# Altium schematic symbol library kmilo17pet-TI_BattMgmt.SchLib: 950 symbols (part 27 of 60)
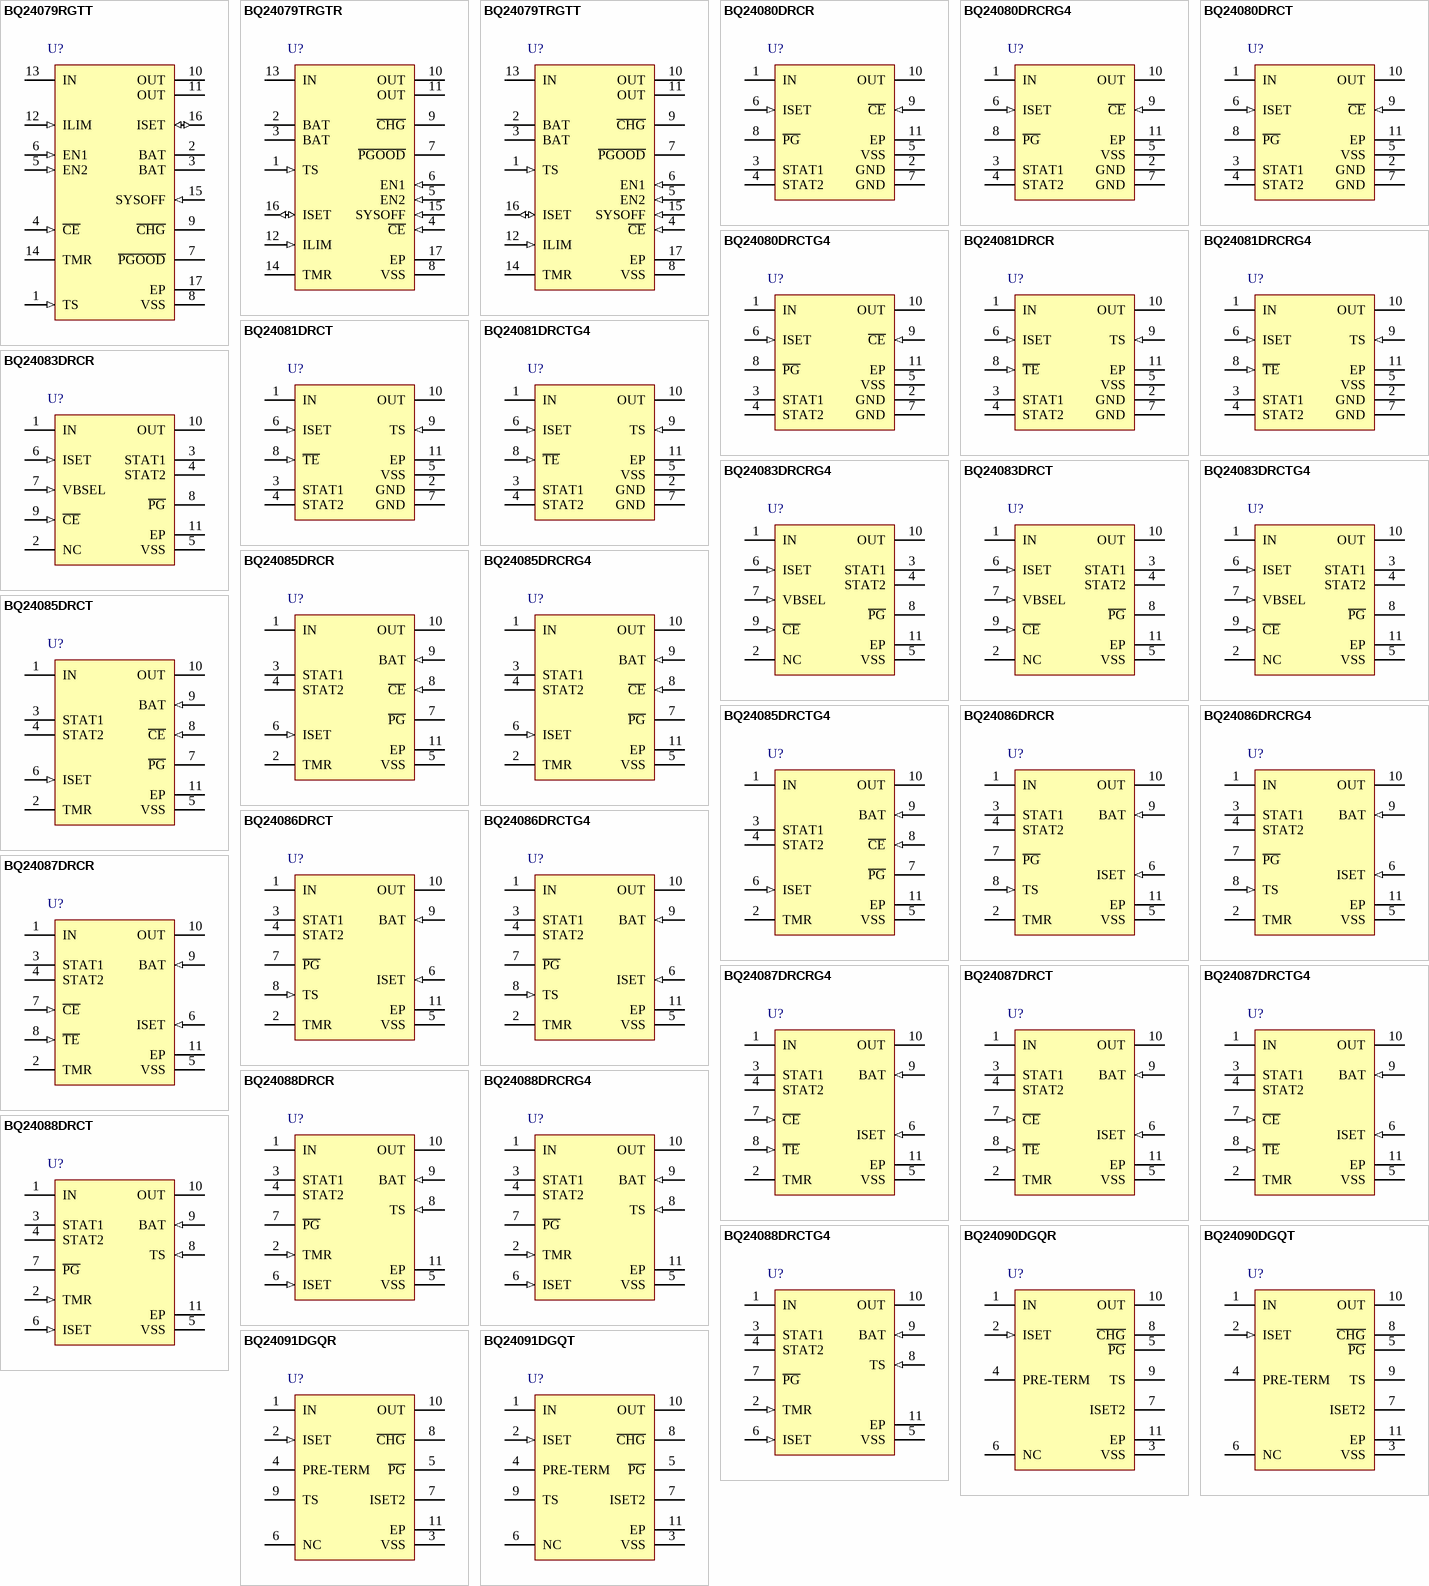
[diagram p60: symbols BQ24079RGTT to BQ24091DGQT]

## BQ24079TRGTT
designator U?
1.5 A USB-Friendly Li-Ion Battery Charger and Power-Path Management IC, 4.3 V, -40 to 85 degC, 16-pin QFN (RGT), Green (RoHS & no Sb/Br); PartNumber: BQ24079TRGTT; Manufacturer: Texas Instruments; Lead Acid: N; SubFamily: Battery Charge Management; Vin(Min)(V): 4.3; DatasheetVersion: SLUS937A; PackageVersion: revH, Oct-2011; PackageReference: RGT16-1700X1700TP; PackageDescription: 16-Pin Plastic Quad Flat No-Lead, 3 x 3 mm Body, 0.5 mm Pitch, 1.7 x 1.7 mm Exposed Pad; Supplier 1: Digi-Key; Supplier Part Number 1: BQ24079TRGTT-ND; Supplier Part Number 3: 595-BQ24079TRGTT; Eco-Plan: Green (RoHS & no Sb/Br); Li-Ion: N; Li-Polymer: N; NiCd: N; NiMH: N; Over Voltage Protection: N; Mounting Technology: Surface Mount; Code_JEDEC: MO-220; ComponentLink1Description: Datasheet; ComponentLink1URL: http://www.ti.com/general/docs/lit/getliterature.tsp?genericPartNumber=BQ24079T&fileType=pdf
footprint RGT16-1700X1700TP (QFN, 16-Leads, Body 3x3mm, Pitch 0.5mm, Thermal Pad 1.7x1.7mm, TI Recommended)
pins: 1 TS (in) "External NTC Thermistor Input. Connect the TS input to the center tap of a resistor divider rom VIN to GND with the NTC in parallel with the bottom resistor to monitor the NTC in the battery pack. For applications that do (See Datasheet)", 2 BAT (power) "Charger Power Stage Output and Battery Voltage Sense Input. Connect BAT to the positive terminal of the battery. Bypass BAT to VSS with a 4.7uF to 47uF ceramic capacitor.", 3 BAT (power) "Charger Power Stage Output and Battery Voltage Sense Input. Connect BAT to the positive terminal of the battery. Bypass BAT to VSS with a 4.7uF to 47uF ceramic capacitor.", 4 ~{CE} (in) "Charge Enable Active-Low Input. Connect C\E\ to a high logic level to place the battery charger in standby mode. In standby mode, OUT is active and battery supplement mode is available. Connect /CE to a low logic level to (See Datasheet)", 5 EN2 (in) "Input Current Limit Configuration Inputs. Use EN1 and En2 to control the maximum input current and enable USB compliance. See Table 1 for the description of the operation states. EN1 and EN2 are internally pulled down with (See Datasheet)", 6 EN1 (in) "Input Current Limit Configuration Inputs. Use EN1 and En2 to control the maximum input current and enable USB compliance. See Table 1 for the description of the operation states. EN1 and EN2 are internally pulled down with (See Datasheet)", 7 ~{PGOOD} (hiz) "Open-Drain Power Good Status Indication Output. P\G\O\O\D\ pulls to VSS when a valid input source is detected. P\G\O\O\D\ is high-impedance when the input power is not within specified limits. Connect P\G\O\O\D\ to the (See Datasheet)", 8 VSS (power) "Ground. Connect to the thermal pad and to the ground rail of the circuit.", 9 ~{CHG} (hiz) "Open-Drain Charging Status Indication Output. C\H\G\ pulls to VSS when the battery is charging. C\H\G\ is high-impedance when charging is complete or when the charger is disabled. C\H\G\ flashes to indicate a timer fault. (See Datasheet)", 10 OUT (power) "System Supply Output. OUT provides a regulated output when the input is below the OVP threshold and above the regulation voltage. When the input is out of the operation range, OUT is connected to VBAT except when SYSOFF is (See Datasheet)", 11 OUT (power) "System Supply Output. OUT provides a regulated output when the input is below the OVP threshold and above the regulation voltage. When the input is out of the operation range, OUT is connected to VBAT except when SYSOFF is (See Datasheet)", 12 ILIM (in) "Adjustable Current Limit Programming Input. Connect a 1.07k ohm to 7.5k ohm resistor from ILIM to VSS to program the maximum input current (EN2=1, EN1=0). The input current includes the system load and the battery charge (See Datasheet)", 13 IN (power) "Input Power Connection. Connect IN to the external DC supply (AC adapter or USB port).The input operating range is 4.35V to 6.6V. The input accepts voltages up to 26V without damage, but operation is suspended. Bypass IN to (See Datasheet)", 14 TMR "Timer Programming Input. TMR controls the pre-charge and fast-charge safety timers.Connect TMR to VSS to disable all safety timers. Connect a 18k ohm to 72k ohm resistor between TMR and VSS to program the timers to a desired (See Datasheet)", 15 SYSOFF (in) "System Enable Input. Connect SYSOFF high to turn off the FET connecting the battery to the system output. When an adapter is connected, charge is also disabled. Connect SYSOFF low for normal operation. SYSOFF is internally (See Datasheet)", 16 ISET (io) "Fast Charge Current Programming Input. Connect a 590 ohm to 3 k ohm resistor from ISET to VSS to program the fast charge current level. Charging is disabled if ISET is left unconnected. While charging, the voltage ISET (See Datasheet)", 17 EP (power) "There is an internal electrical connection between the exposed thermal pad and the VSS pin of the device. The thermal pad must be connected to the same potential as the VSS pin on the printed circuit board. Do not use the (See Datasheet)"

## BQ24080DRCR
designator U?
1-Cell Li-Ion Charger with 1 A FET, AC Present and Charge Enable, 4.5 V, -40 to 85 degC, 10-pin SON (DRC), Green (RoHS & no Sb/Br); PartNumber: BQ24080DRCR; Manufacturer: Texas Instruments; Lead Acid: N; Li-Ion: Y; SubFamily: Battery Charge Management; Vin(Min)(V): 4.5; DatasheetVersion: SLUS698E; PackageVersion: revL, Sep-2011; PackageReference: DRC10-2400X1650TP; PackageDescription: 10-Pin Plastic Small Outline No-Lead, 3 x 3 x 1 mm Body, 0.5 mm Pitch, Exposed Pad; Supplier 1: Digi-Key; Supplier Part Number 1: 296-19653-2-ND; Supplier Part Number 3: 296-19653-6-ND; Eco-Plan: Green (RoHS & no Sb/Br); Li-Polymer: Y; NiCd: N; NiMH: N; Over Voltage Protection: N; Mounting Technology: Surface Mount; ComponentLink1Description: Datasheet; ComponentLink1URL: http://www.ti.com/general/docs/lit/getliterature.tsp?genericPartNumber=BQ24080&fileType=pdf
footprint DRC10-2400X1650TP (SON, 10-Leads, Body 3x3mm, Pitch 0.5mm, Thermal Pad 2.4x1.65mm, TI Recommended)
pins: 1 IN (power) "Adapter dc voltage. Connect minimum 0.1-uF capacitor to VSS.", 2 GND (power) "Ground", 3 STAT1 (oc) "Charge status outputs (open-drain)", 4 STAT2 (oc) "Charge status outputs (open-drain)", 5 VSS (power) "Ground", 6 ISET (in) "Charge current. External resistor to VSS sets precharge and fast-charge current, and also the termination current value. Can be used to monitor the charge current.", 7 GND (power) "Ground", 8 ~{PG} (hiz) "Power-good status output (open-drain)", 9 ~{CE} (in) "Charge enable input (active-low)", 10 OUT (power) "Charge current output. Connect minimum 0.1-uF capacitor to VSS.", 11 EP (power) "There is an internal electrical connection between the exposed thermal pad and the VSS pin of the device. The exposed thermal pad must be connected to the same potential as the VSS pin on the printed-circuit board. Do not (See Datasheet)"

## BQ24080DRCRG4
designator U?
1-Cell Li-Ion Charger with 1 A FET, AC Present and Charge Enable, 4.5 V, -40 to 85 degC, 10-pin SON (DRC), Green (RoHS & no Sb/Br); PartNumber: BQ24080DRCRG4; Manufacturer: Texas Instruments; Lead Acid: N; Li-Ion: Y; SubFamily: Battery Charge Management; Vin(Min)(V): 4.5; DatasheetVersion: SLUS698E; PackageVersion: revL, Sep-2011; PackageReference: DRC10-2400X1650TP; PackageDescription: 10-Pin Plastic Small Outline No-Lead, 3 x 3 x 1 mm Body, 0.5 mm Pitch, Exposed Pad; Supplier 1: Digi-Key; Supplier Part Number 1: BQ24080DRCRG4-ND; Supplier Part Number 3: 595-BQ24080DRCRG4; Eco-Plan: Green (RoHS & no Sb/Br); Li-Polymer: Y; NiCd: N; NiMH: N; Over Voltage Protection: N; Mounting Technology: Surface Mount; ComponentLink1Description: Datasheet; ComponentLink1URL: http://www.ti.com/general/docs/lit/getliterature.tsp?genericPartNumber=BQ24080&fileType=pdf
footprint DRC10-2400X1650TP (SON, 10-Leads, Body 3x3mm, Pitch 0.5mm, Thermal Pad 2.4x1.65mm, TI Recommended)
pins: 1 IN (power) "Adapter dc voltage. Connect minimum 0.1-uF capacitor to VSS.", 2 GND (power) "Ground", 3 STAT1 (oc) "Charge status outputs (open-drain)", 4 STAT2 (oc) "Charge status outputs (open-drain)", 5 VSS (power) "Ground", 6 ISET (in) "Charge current. External resistor to VSS sets precharge and fast-charge current, and also the termination current value. Can be used to monitor the charge current.", 7 GND (power) "Ground", 8 ~{PG} (hiz) "Power-good status output (open-drain)", 9 ~{CE} (in) "Charge enable input (active-low)", 10 OUT (power) "Charge current output. Connect minimum 0.1-uF capacitor to VSS.", 11 EP (power) "There is an internal electrical connection between the exposed thermal pad and the VSS pin of the device. The exposed thermal pad must be connected to the same potential as the VSS pin on the printed-circuit board. Do not (See Datasheet)"

## BQ24080DRCT
designator U?
1-Cell Li-Ion Charger with 1 A FET, AC Present and Charge Enable, 4.5 V, -40 to 85 degC, 10-pin SON (DRC), Green (RoHS & no Sb/Br); PartNumber: BQ24080DRCT; Manufacturer: Texas Instruments; Lead Acid: N; Li-Ion: Y; SubFamily: Battery Charge Management; Vin(Min)(V): 4.5; DatasheetVersion: SLUS698E; PackageVersion: revL, Sep-2011; PackageReference: DRC10-2400X1650TP; PackageDescription: 10-Pin Plastic Small Outline No-Lead, 3 x 3 x 1 mm Body, 0.5 mm Pitch, Exposed Pad; Supplier 1: Digi-Key; Supplier Part Number 1: 296-25923-2-ND; Supplier Part Number 3: 296-25923-6-ND; Eco-Plan: Green (RoHS & no Sb/Br); Li-Polymer: Y; NiCd: N; NiMH: N; Over Voltage Protection: N; Mounting Technology: Surface Mount; ComponentLink1Description: Datasheet; ComponentLink1URL: http://www.ti.com/general/docs/lit/getliterature.tsp?genericPartNumber=BQ24080&fileType=pdf
footprint DRC10-2400X1650TP (SON, 10-Leads, Body 3x3mm, Pitch 0.5mm, Thermal Pad 2.4x1.65mm, TI Recommended)
pins: 1 IN (power) "Adapter dc voltage. Connect minimum 0.1-uF capacitor to VSS.", 2 GND (power) "Ground", 3 STAT1 (oc) "Charge status outputs (open-drain)", 4 STAT2 (oc) "Charge status outputs (open-drain)", 5 VSS (power) "Ground", 6 ISET (in) "Charge current. External resistor to VSS sets precharge and fast-charge current, and also the termination current value. Can be used to monitor the charge current.", 7 GND (power) "Ground", 8 ~{PG} (hiz) "Power-good status output (open-drain)", 9 ~{CE} (in) "Charge enable input (active-low)", 10 OUT (power) "Charge current output. Connect minimum 0.1-uF capacitor to VSS.", 11 EP (power) "There is an internal electrical connection between the exposed thermal pad and the VSS pin of the device. The exposed thermal pad must be connected to the same potential as the VSS pin on the printed-circuit board. Do not (See Datasheet)"

## BQ24080DRCTG4
designator U?
1-Cell Li-Ion Charger with 1 A FET, AC Present and Charge Enable, 4.5 V, -40 to 85 degC, 10-pin SON (DRC), Green (RoHS & no Sb/Br); PartNumber: BQ24080DRCTG4; Manufacturer: Texas Instruments; Lead Acid: N; Li-Ion: Y; SubFamily: Battery Charge Management; Vin(Min)(V): 4.5; DatasheetVersion: SLUS698E; PackageVersion: revL, Sep-2011; PackageReference: DRC10-2400X1650TP; PackageDescription: 10-Pin Plastic Small Outline No-Lead, 3 x 3 x 1 mm Body, 0.5 mm Pitch, Exposed Pad; Supplier 1: Digi-Key; Supplier Part Number 1: BQ24080DRCTG4-ND; Supplier Part Number 3: 595-BQ24080DRCTG4; Eco-Plan: Green (RoHS & no Sb/Br); Li-Polymer: Y; NiCd: N; NiMH: N; Over Voltage Protection: N; Mounting Technology: Surface Mount; ComponentLink1Description: Datasheet; ComponentLink1URL: http://www.ti.com/general/docs/lit/getliterature.tsp?genericPartNumber=BQ24080&fileType=pdf
footprint DRC10-2400X1650TP (SON, 10-Leads, Body 3x3mm, Pitch 0.5mm, Thermal Pad 2.4x1.65mm, TI Recommended)
pins: 1 IN (power) "Adapter dc voltage. Connect minimum 0.1-uF capacitor to VSS.", 2 GND (power) "Ground", 3 STAT1 (oc) "Charge status outputs (open-drain)", 4 STAT2 (oc) "Charge status outputs (open-drain)", 5 VSS (power) "Ground", 6 ISET (in) "Charge current. External resistor to VSS sets precharge and fast-charge current, and also the termination current value. Can be used to monitor the charge current.", 7 GND (power) "Ground", 8 ~{PG} (hiz) "Power-good status output (open-drain)", 9 ~{CE} (in) "Charge enable input (active-low)", 10 OUT (power) "Charge current output. Connect minimum 0.1-uF capacitor to VSS.", 11 EP (power) "There is an internal electrical connection between the exposed thermal pad and the VSS pin of the device. The exposed thermal pad must be connected to the same potential as the VSS pin on the printed-circuit board. Do not (See Datasheet)"

## BQ24081DRCR
designator U?
1-Cell Li-Ion Charger with 1 A FET, Timer Enable and Temperature Sensing, 4.5 V, -40 to 85 degC, 10-pin SON (DRC), Green (RoHS & no Sb/Br); PartNumber: BQ24081DRCR; Manufacturer: Texas Instruments; Lead Acid: N; Li-Ion: Y; SubFamily: Battery Charge Management; Vin(Min)(V): 4.5; DatasheetVersion: SLUS698E; PackageVersion: revL, Sep-2011; PackageReference: DRC10-2400X1650TP; PackageDescription: 10-Pin Plastic Small Outline No-Lead, 3 x 3 x 1 mm Body, 0.5 mm Pitch, Exposed Pad; Supplier 1: Digi-Key; Supplier Part Number 1: 296-21217-2-ND; Supplier Part Number 3: 296-21217-6-ND; Eco-Plan: Green (RoHS & no Sb/Br); Li-Polymer: Y; NiCd: N; NiMH: N; Over Voltage Protection: N; Mounting Technology: Surface Mount; ComponentLink1Description: Datasheet; ComponentLink1URL: http://www.ti.com/general/docs/lit/getliterature.tsp?genericPartNumber=BQ24081&fileType=pdf
footprint DRC10-2400X1650TP (SON, 10-Leads, Body 3x3mm, Pitch 0.5mm, Thermal Pad 2.4x1.65mm, TI Recommended)
pins: 1 IN (power) "Adapter dc voltage. Connect minimum 0.1 uF capacitor to VSS.", 2 GND (power) "Ground", 3 STAT1 (oc) "Charge status outputs (open-drain)", 4 STAT2 (oc) "Charge status outputs (open-drain)", 5 VSS (power) "Ground", 6 ISET (in) "Charge current. External resistor to VSS sets precharge and fast-charge current, and also the termination current value. Can be used to monitor the charge current.", 7 GND (power) "Ground", 8 ~{TE} (in) "Timer-enable input (active-low)", 9 TS (in) "Temperature sense; connect to NTC in battery pack.", 10 OUT (power) "Charge current output. Connect minimum 0.1 uF capacitor to VSS.", 11 EP (power) "There is an internal electrical connection between the exposed thermal pad and the VSS pin of the device. The exposed thermal pad must be connected to the same potential as the VSS pin on the printed-circuit board. Do not (See Datasheet)"

## BQ24081DRCRG4
designator U?
1-Cell Li-Ion Charger with 1 A FET, Timer Enable and Temperature Sensing, 4.5 V, -40 to 85 degC, 10-pin SON (DRC), Green (RoHS & no Sb/Br); PartNumber: BQ24081DRCRG4; Manufacturer: Texas Instruments; Lead Acid: N; Li-Ion: Y; SubFamily: Battery Charge Management; Vin(Min)(V): 4.5; DatasheetVersion: SLUS698E; PackageVersion: revL, Sep-2011; PackageReference: DRC10-2400X1650TP; PackageDescription: 10-Pin Plastic Small Outline No-Lead, 3 x 3 x 1 mm Body, 0.5 mm Pitch, Exposed Pad; Supplier 1: Digi-Key; Supplier Part Number 1: BQ24081DRCRG4-ND; Supplier Part Number 3: 595-BQ24081DRCRG4; Eco-Plan: Green (RoHS & no Sb/Br); Li-Polymer: Y; NiCd: N; NiMH: N; Over Voltage Protection: N; Mounting Technology: Surface Mount; ComponentLink1Description: Datasheet; ComponentLink1URL: http://www.ti.com/general/docs/lit/getliterature.tsp?genericPartNumber=BQ24081&fileType=pdf
footprint DRC10-2400X1650TP (SON, 10-Leads, Body 3x3mm, Pitch 0.5mm, Thermal Pad 2.4x1.65mm, TI Recommended)
pins: 1 IN (power) "Adapter dc voltage. Connect minimum 0.1 uF capacitor to VSS.", 2 GND (power) "Ground", 3 STAT1 (oc) "Charge status outputs (open-drain)", 4 STAT2 (oc) "Charge status outputs (open-drain)", 5 VSS (power) "Ground", 6 ISET (in) "Charge current. External resistor to VSS sets precharge and fast-charge current, and also the termination current value. Can be used to monitor the charge current.", 7 GND (power) "Ground", 8 ~{TE} (in) "Timer-enable input (active-low)", 9 TS (in) "Temperature sense; connect to NTC in battery pack.", 10 OUT (power) "Charge current output. Connect minimum 0.1 uF capacitor to VSS.", 11 EP (power) "There is an internal electrical connection between the exposed thermal pad and the VSS pin of the device. The exposed thermal pad must be connected to the same potential as the VSS pin on the printed-circuit board. Do not (See Datasheet)"

## BQ24081DRCT
designator U?
1-Cell Li-Ion Charger with 1 A FET, Timer Enable and Temperature Sensing, 4.5 V, -40 to 85 degC, 10-pin SON (DRC), Green (RoHS & no Sb/Br); PartNumber: BQ24081DRCT; Manufacturer: Texas Instruments; Lead Acid: N; Li-Ion: Y; SubFamily: Battery Charge Management; Vin(Min)(V): 4.5; DatasheetVersion: SLUS698E; PackageVersion: revL, Sep-2011; PackageReference: DRC10-2400X1650TP; PackageDescription: 10-Pin Plastic Small Outline No-Lead, 3 x 3 x 1 mm Body, 0.5 mm Pitch, Exposed Pad; Supplier 1: Digi-Key; Supplier Part Number 1: 296-32026-2-ND; Supplier Part Number 3: 296-32026-6-ND; Eco-Plan: Green (RoHS & no Sb/Br); Li-Polymer: Y; NiCd: N; NiMH: N; Over Voltage Protection: N; Mounting Technology: Surface Mount; ComponentLink1Description: Datasheet; ComponentLink1URL: http://www.ti.com/general/docs/lit/getliterature.tsp?genericPartNumber=BQ24081&fileType=pdf
footprint DRC10-2400X1650TP (SON, 10-Leads, Body 3x3mm, Pitch 0.5mm, Thermal Pad 2.4x1.65mm, TI Recommended)
pins: 1 IN (power) "Adapter dc voltage. Connect minimum 0.1 uF capacitor to VSS.", 2 GND (power) "Ground", 3 STAT1 (oc) "Charge status outputs (open-drain)", 4 STAT2 (oc) "Charge status outputs (open-drain)", 5 VSS (power) "Ground", 6 ISET (in) "Charge current. External resistor to VSS sets precharge and fast-charge current, and also the termination current value. Can be used to monitor the charge current.", 7 GND (power) "Ground", 8 ~{TE} (in) "Timer-enable input (active-low)", 9 TS (in) "Temperature sense; connect to NTC in battery pack.", 10 OUT (power) "Charge current output. Connect minimum 0.1 uF capacitor to VSS.", 11 EP (power) "There is an internal electrical connection between the exposed thermal pad and the VSS pin of the device. The exposed thermal pad must be connected to the same potential as the VSS pin on the printed-circuit board. Do not (See Datasheet)"

## BQ24081DRCTG4
designator U?
1-Cell Li-Ion Charger with 1 A FET, Timer Enable and Temperature Sensing, 4.5 V, -40 to 85 degC, 10-pin SON (DRC), Green (RoHS & no Sb/Br); PartNumber: BQ24081DRCTG4; Manufacturer: Texas Instruments; Lead Acid: N; Li-Ion: Y; SubFamily: Battery Charge Management; Vin(Min)(V): 4.5; DatasheetVersion: SLUS698E; PackageVersion: revL, Sep-2011; PackageReference: DRC10-2400X1650TP; PackageDescription: 10-Pin Plastic Small Outline No-Lead, 3 x 3 x 1 mm Body, 0.5 mm Pitch, Exposed Pad; Supplier 1: Digi-Key; Supplier Part Number 1: BQ24081DRCTG4-ND; Supplier Part Number 3: 595-BQ24081DRCTG4; Eco-Plan: Green (RoHS & no Sb/Br); Li-Polymer: Y; NiCd: N; NiMH: N; Over Voltage Protection: N; Mounting Technology: Surface Mount; ComponentLink1Description: Datasheet; ComponentLink1URL: http://www.ti.com/general/docs/lit/getliterature.tsp?genericPartNumber=BQ24081&fileType=pdf
footprint DRC10-2400X1650TP (SON, 10-Leads, Body 3x3mm, Pitch 0.5mm, Thermal Pad 2.4x1.65mm, TI Recommended)
pins: 1 IN (power) "Adapter dc voltage. Connect minimum 0.1 uF capacitor to VSS.", 2 GND (power) "Ground", 3 STAT1 (oc) "Charge status outputs (open-drain)", 4 STAT2 (oc) "Charge status outputs (open-drain)", 5 VSS (power) "Ground", 6 ISET (in) "Charge current. External resistor to VSS sets precharge and fast-charge current, and also the termination current value. Can be used to monitor the charge current.", 7 GND (power) "Ground", 8 ~{TE} (in) "Timer-enable input (active-low)", 9 TS (in) "Temperature sense; connect to NTC in battery pack.", 10 OUT (power) "Charge current output. Connect minimum 0.1 uF capacitor to VSS.", 11 EP (power) "There is an internal electrical connection between the exposed thermal pad and the VSS pin of the device. The exposed thermal pad must be connected to the same potential as the VSS pin on the printed-circuit board. Do not (See Datasheet)"

## BQ24083DRCR
designator U?
1-Cell Li-Ion Charger with 4.06 V Charge Voltage, 4.06 V, -40 to 125 degC, 10-pin SON (DRC), Green (RoHS & no Sb/Br); PartNumber: BQ24083DRCR; Manufacturer: Texas Instruments; Lead Acid: N; Li-Ion: Y; SubFamily: Battery Charge Management; Vin(Min)(V): 4.06; DatasheetVersion: SLUS848A; PackageVersion: revL, Sep-2011; PackageReference: DRC10-2400X1650TP; PackageDescription: 10-Pin Plastic Small Outline No-Lead, 3 x 3 x 1 mm Body, 0.5 mm Pitch, Exposed Pad; Supplier 1: Digi-Key; Supplier Part Number 1: 296-23459-2-ND; Supplier Part Number 3: 296-23459-6-ND; Eco-Plan: Green (RoHS & no Sb/Br); Li-Polymer: Y; NiCd: N; NiMH: N; Over Voltage Protection: N; Mounting Technology: Surface Mount; ComponentLink1Description: Datasheet; ComponentLink1URL: http://www.ti.com/general/docs/lit/getliterature.tsp?genericPartNumber=BQ24083&fileType=pdf
footprint DRC10-2400X1650TP (SON, 10-Leads, Body 3x3mm, Pitch 0.5mm, Thermal Pad 2.4x1.65mm, TI Recommended)
pins: 1 IN (power) "Adapter dc voltage. Connect minimum 0.1-uF capacitor to VSS.", 2 NC "No Connection. Leave this pin unconnected. Used for internal test purposes.", 3 STAT1 (oc) "Charge status outputs (open-drain)", 4 STAT2 (oc) "Charge status outputs (open-drain)", 5 VSS (power) "Ground", 6 ISET (in) "Charge current. External resistor to VSS sets precharge and fast-charge current, and also the termination current value. Can be used to monitor the charge current.", 7 VBSEL (in) "Voltage output selection. (HI = 4.06 V, LO = 4.2 V)", 8 ~{PG} (hiz) "Power-good status output (open-drain)", 9 ~{CE} (in) "Charge enable input (active-low)", 10 OUT (power) "Charge current output. Connect minimum 0.1-uF capacitor to VSS.", 11 EP (power) "There is an internal electrical connection between the exposed thermal pad and the VSS pin of the device. The exposed thermal pad must be connected to the same potential as the VSS pin on the printed-circuit board. Do not (See Datasheet)"

## BQ24083DRCRG4
designator U?
1-Cell Li-Ion Charger with 4.06 V Charge Voltage, 4.06 V, -40 to 125 degC, 10-pin SON (DRC), Green (RoHS & no Sb/Br); PartNumber: BQ24083DRCRG4; Manufacturer: Texas Instruments; Lead Acid: N; Li-Ion: Y; SubFamily: Battery Charge Management; Vin(Min)(V): 4.06; DatasheetVersion: SLUS848A; PackageVersion: revL, Sep-2011; PackageReference: DRC10-2400X1650TP; PackageDescription: 10-Pin Plastic Small Outline No-Lead, 3 x 3 x 1 mm Body, 0.5 mm Pitch, Exposed Pad; Supplier 1: Digi-Key; Supplier Part Number 1: BQ24083DRCRG4-ND; Eco-Plan: Green (RoHS & no Sb/Br); Li-Polymer: Y; NiCd: N; NiMH: N; Over Voltage Protection: N; Mounting Technology: Surface Mount; ComponentLink1Description: Datasheet; ComponentLink1URL: http://www.ti.com/general/docs/lit/getliterature.tsp?genericPartNumber=BQ24083&fileType=pdf
footprint DRC10-2400X1650TP (SON, 10-Leads, Body 3x3mm, Pitch 0.5mm, Thermal Pad 2.4x1.65mm, TI Recommended)
pins: 1 IN (power) "Adapter dc voltage. Connect minimum 0.1-uF capacitor to VSS.", 2 NC "No Connection. Leave this pin unconnected. Used for internal test purposes.", 3 STAT1 (oc) "Charge status outputs (open-drain)", 4 STAT2 (oc) "Charge status outputs (open-drain)", 5 VSS (power) "Ground", 6 ISET (in) "Charge current. External resistor to VSS sets precharge and fast-charge current, and also the termination current value. Can be used to monitor the charge current.", 7 VBSEL (in) "Voltage output selection. (HI = 4.06 V, LO = 4.2 V)", 8 ~{PG} (hiz) "Power-good status output (open-drain)", 9 ~{CE} (in) "Charge enable input (active-low)", 10 OUT (power) "Charge current output. Connect minimum 0.1-uF capacitor to VSS.", 11 EP (power) "There is an internal electrical connection between the exposed thermal pad and the VSS pin of the device. The exposed thermal pad must be connected to the same potential as the VSS pin on the printed-circuit board. Do not (See Datasheet)"

## BQ24083DRCT
designator U?
1-Cell Li-Ion Charger with 4.06 V Charge Voltage, 4.06 V, -40 to 125 degC, 10-pin SON (DRC), Green (RoHS & no Sb/Br); PartNumber: BQ24083DRCT; Manufacturer: Texas Instruments; Lead Acid: N; Li-Ion: Y; SubFamily: Battery Charge Management; Vin(Min)(V): 4.06; DatasheetVersion: SLUS848A; PackageVersion: revL, Sep-2011; PackageReference: DRC10-2400X1650TP; PackageDescription: 10-Pin Plastic Small Outline No-Lead, 3 x 3 x 1 mm Body, 0.5 mm Pitch, Exposed Pad; Supplier 1: Digi-Key; Supplier Part Number 1: 296-32027-2-ND; Supplier Part Number 3: 296-32027-6-ND; Eco-Plan: Green (RoHS & no Sb/Br); Li-Polymer: Y; NiCd: N; NiMH: N; Over Voltage Protection: N; Mounting Technology: Surface Mount; ComponentLink1Description: Datasheet; ComponentLink1URL: http://www.ti.com/general/docs/lit/getliterature.tsp?genericPartNumber=BQ24083&fileType=pdf
footprint DRC10-2400X1650TP (SON, 10-Leads, Body 3x3mm, Pitch 0.5mm, Thermal Pad 2.4x1.65mm, TI Recommended)
pins: 1 IN (power) "Adapter dc voltage. Connect minimum 0.1-uF capacitor to VSS.", 2 NC "No Connection. Leave this pin unconnected. Used for internal test purposes.", 3 STAT1 (oc) "Charge status outputs (open-drain)", 4 STAT2 (oc) "Charge status outputs (open-drain)", 5 VSS (power) "Ground", 6 ISET (in) "Charge current. External resistor to VSS sets precharge and fast-charge current, and also the termination current value. Can be used to monitor the charge current.", 7 VBSEL (in) "Voltage output selection. (HI = 4.06 V, LO = 4.2 V)", 8 ~{PG} (hiz) "Power-good status output (open-drain)", 9 ~{CE} (in) "Charge enable input (active-low)", 10 OUT (power) "Charge current output. Connect minimum 0.1-uF capacitor to VSS.", 11 EP (power) "There is an internal electrical connection between the exposed thermal pad and the VSS pin of the device. The exposed thermal pad must be connected to the same potential as the VSS pin on the printed-circuit board. Do not (See Datasheet)"

## BQ24083DRCTG4
designator U?
1-Cell Li-Ion Charger with 4.06 V Charge Voltage, 4.06 V, -40 to 125 degC, 10-pin SON (DRC), Green (RoHS & no Sb/Br); PartNumber: BQ24083DRCTG4; Manufacturer: Texas Instruments; Lead Acid: N; Li-Ion: Y; SubFamily: Battery Charge Management; Vin(Min)(V): 4.06; DatasheetVersion: SLUS848A; PackageVersion: revL, Sep-2011; PackageReference: DRC10-2400X1650TP; PackageDescription: 10-Pin Plastic Small Outline No-Lead, 3 x 3 x 1 mm Body, 0.5 mm Pitch, Exposed Pad; Supplier 1: Digi-Key; Supplier Part Number 1: BQ24083DRCTG4-ND; Eco-Plan: Green (RoHS & no Sb/Br); Li-Polymer: Y; NiCd: N; NiMH: N; Over Voltage Protection: N; Mounting Technology: Surface Mount; ComponentLink1Description: Datasheet; ComponentLink1URL: http://www.ti.com/general/docs/lit/getliterature.tsp?genericPartNumber=BQ24083&fileType=pdf
footprint DRC10-2400X1650TP (SON, 10-Leads, Body 3x3mm, Pitch 0.5mm, Thermal Pad 2.4x1.65mm, TI Recommended)
pins: 1 IN (power) "Adapter dc voltage. Connect minimum 0.1-uF capacitor to VSS.", 2 NC "No Connection. Leave this pin unconnected. Used for internal test purposes.", 3 STAT1 (oc) "Charge status outputs (open-drain)", 4 STAT2 (oc) "Charge status outputs (open-drain)", 5 VSS (power) "Ground", 6 ISET (in) "Charge current. External resistor to VSS sets precharge and fast-charge current, and also the termination current value. Can be used to monitor the charge current.", 7 VBSEL (in) "Voltage output selection. (HI = 4.06 V, LO = 4.2 V)", 8 ~{PG} (hiz) "Power-good status output (open-drain)", 9 ~{CE} (in) "Charge enable input (active-low)", 10 OUT (power) "Charge current output. Connect minimum 0.1-uF capacitor to VSS.", 11 EP (power) "There is an internal electrical connection between the exposed thermal pad and the VSS pin of the device. The exposed thermal pad must be connected to the same potential as the VSS pin on the printed-circuit board. Do not (See Datasheet)"

## BQ24085DRCR
designator U?
750 mA Single-Chip Li-Ion / Li-Pol Charge Management IC with Thermal Regulation, 4.3 V, 0 to 125 degC, 10-pin SON (DRC), Green (RoHS & no Sb/Br); PartNumber: BQ24085DRCR; Manufacturer: Texas Instruments; Lead Acid: N; Li-Ion: Y; SubFamily: Battery Charge Management; Vin(Min)(V): 4.3; DatasheetVersion: SLUS784D; PackageVersion: revL, Sep-2011; PackageReference: DRC10-2400X1650TP; PackageDescription: 10-Pin Plastic Small Outline No-Lead, 3 x 3 x 1 mm Body, 0.5 mm Pitch, Exposed Pad; Supplier 1: Digi-Key; Supplier Part Number 1: 296-22992-2-ND; Supplier Part Number 3: 296-22992-6-ND; Eco-Plan: Green (RoHS & no Sb/Br); Li-Polymer: Y; NiCd: N; NiMH: N; Over Voltage Protection: N; Mounting Technology: Surface Mount; ComponentLink1Description: Datasheet; ComponentLink1URL: http://www.ti.com/general/docs/lit/getliterature.tsp?genericPartNumber=BQ24085&fileType=pdf
footprint DRC10-2400X1650TP (SON, 10-Leads, Body 3x3mm, Pitch 0.5mm, Thermal Pad 2.4x1.65mm, TI Recommended)
pins: 1 IN (power) "Charge Input Voltage and internal supply. Connect a 1- uF (minimum) capacitor from IN to VSS. CIN >= COUT", 2 TMR "Safety Timer Program Input, timer disabled if floating. Connect a resistor to VSS pin to program safety timer timeout value", 3 STAT1 (hiz) "Charge Status Output 1", 4 STAT2 (hiz) "Charge Status Output 2", 5 VSS (power) "Ground", 6 ISET (in) "Charge current set point, resistor connected from ISET to VSS sets charge current value. Connect a 0.1-uF capacitor from BAT to ISET for I(OUT) < 200 mA.", 7 ~{PG} (hiz) "Power Good status output (open-collector), active low", 8 ~{CE} (in) "Charge enable Input. C\E\ = LO enables charger. C\E\ = HI disables charger.", 9 BAT (in) "Battery Voltage Sense Input. Connect to the battery positive terminal. Connect a 390-ohm resistor from BAT to OUT for I(OUT) < 200 mA.", 10 OUT (power) "Charge current output. Connect to the battery positive terminal. Connect a 1- uF (minimum) capacitor from OUT to VSS.", 11 EP (power) "There is an internal electrical connection between the exposed thermal pad and Vss pin of the IC. The exposed thermal pad must be connected to the same potential as the VSS pin on the printed circuit board. Do not use the (See Datasheet)"

## BQ24085DRCRG4
designator U?
750 mA Single-Chip Li-Ion / Li-Pol Charge Management IC with Thermal Regulation, 4.3 V, 0 to 125 degC, 10-pin SON (DRC), Green (RoHS & no Sb/Br); PartNumber: BQ24085DRCRG4; Manufacturer: Texas Instruments; Lead Acid: N; Li-Ion: Y; SubFamily: Battery Charge Management; Vin(Min)(V): 4.3; DatasheetVersion: SLUS784D; PackageVersion: revL, Sep-2011; PackageReference: DRC10-2400X1650TP; PackageDescription: 10-Pin Plastic Small Outline No-Lead, 3 x 3 x 1 mm Body, 0.5 mm Pitch, Exposed Pad; Supplier 1: Digi-Key; Supplier Part Number 1: BQ24085DRCRG4-ND; Eco-Plan: Green (RoHS & no Sb/Br); Li-Polymer: Y; NiCd: N; NiMH: N; Over Voltage Protection: N; Mounting Technology: Surface Mount; ComponentLink1Description: Datasheet; ComponentLink1URL: http://www.ti.com/general/docs/lit/getliterature.tsp?genericPartNumber=BQ24085&fileType=pdf
footprint DRC10-2400X1650TP (SON, 10-Leads, Body 3x3mm, Pitch 0.5mm, Thermal Pad 2.4x1.65mm, TI Recommended)
pins: 1 IN (power) "Charge Input Voltage and internal supply. Connect a 1- uF (minimum) capacitor from IN to VSS. CIN >= COUT", 2 TMR "Safety Timer Program Input, timer disabled if floating. Connect a resistor to VSS pin to program safety timer timeout value", 3 STAT1 (hiz) "Charge Status Output 1", 4 STAT2 (hiz) "Charge Status Output 2", 5 VSS (power) "Ground", 6 ISET (in) "Charge current set point, resistor connected from ISET to VSS sets charge current value. Connect a 0.1-uF capacitor from BAT to ISET for I(OUT) < 200 mA.", 7 ~{PG} (hiz) "Power Good status output (open-collector), active low", 8 ~{CE} (in) "Charge enable Input. C\E\ = LO enables charger. C\E\ = HI disables charger.", 9 BAT (in) "Battery Voltage Sense Input. Connect to the battery positive terminal. Connect a 390-ohm resistor from BAT to OUT for I(OUT) < 200 mA.", 10 OUT (power) "Charge current output. Connect to the battery positive terminal. Connect a 1- uF (minimum) capacitor from OUT to VSS.", 11 EP (power) "There is an internal electrical connection between the exposed thermal pad and Vss pin of the IC. The exposed thermal pad must be connected to the same potential as the VSS pin on the printed circuit board. Do not use the (See Datasheet)"

## BQ24085DRCT
designator U?
750 mA Single-Chip Li-Ion / Li-Pol Charge Management IC with Thermal Regulation, 4.3 V, 0 to 125 degC, 10-pin SON (DRC), Green (RoHS & no Sb/Br); PartNumber: BQ24085DRCT; Manufacturer: Texas Instruments; Lead Acid: N; Li-Ion: Y; SubFamily: Battery Charge Management; Vin(Min)(V): 4.3; DatasheetVersion: SLUS784D; PackageVersion: revL, Sep-2011; PackageReference: DRC10-2400X1650TP; PackageDescription: 10-Pin Plastic Small Outline No-Lead, 3 x 3 x 1 mm Body, 0.5 mm Pitch, Exposed Pad; Supplier 1: Digi-Key; Supplier Part Number 1: BQ24085DRCT-ND; Eco-Plan: Green (RoHS & no Sb/Br); Li-Polymer: Y; NiCd: N; NiMH: N; Over Voltage Protection: N; Mounting Technology: Surface Mount; ComponentLink1Description: Datasheet; ComponentLink1URL: http://www.ti.com/general/docs/lit/getliterature.tsp?genericPartNumber=BQ24085&fileType=pdf
footprint DRC10-2400X1650TP (SON, 10-Leads, Body 3x3mm, Pitch 0.5mm, Thermal Pad 2.4x1.65mm, TI Recommended)
pins: 1 IN (power) "Charge Input Voltage and internal supply. Connect a 1- uF (minimum) capacitor from IN to VSS. CIN >= COUT", 2 TMR "Safety Timer Program Input, timer disabled if floating. Connect a resistor to VSS pin to program safety timer timeout value", 3 STAT1 (hiz) "Charge Status Output 1", 4 STAT2 (hiz) "Charge Status Output 2", 5 VSS (power) "Ground", 6 ISET (in) "Charge current set point, resistor connected from ISET to VSS sets charge current value. Connect a 0.1-uF capacitor from BAT to ISET for I(OUT) < 200 mA.", 7 ~{PG} (hiz) "Power Good status output (open-collector), active low", 8 ~{CE} (in) "Charge enable Input. C\E\ = LO enables charger. C\E\ = HI disables charger.", 9 BAT (in) "Battery Voltage Sense Input. Connect to the battery positive terminal. Connect a 390-ohm resistor from BAT to OUT for I(OUT) < 200 mA.", 10 OUT (power) "Charge current output. Connect to the battery positive terminal. Connect a 1- uF (minimum) capacitor from OUT to VSS.", 11 EP (power) "There is an internal electrical connection between the exposed thermal pad and Vss pin of the IC. The exposed thermal pad must be connected to the same potential as the VSS pin on the printed circuit board. Do not use the (See Datasheet)"

## BQ24085DRCTG4
designator U?
750 mA Single-Chip Li-Ion / Li-Pol Charge Management IC with Thermal Regulation, 4.3 V, 0 to 125 degC, 10-pin SON (DRC), Green (RoHS & no Sb/Br); PartNumber: BQ24085DRCTG4; Manufacturer: Texas Instruments; Lead Acid: N; Li-Ion: Y; SubFamily: Battery Charge Management; Vin(Min)(V): 4.3; DatasheetVersion: SLUS784D; PackageVersion: revL, Sep-2011; PackageReference: DRC10-2400X1650TP; PackageDescription: 10-Pin Plastic Small Outline No-Lead, 3 x 3 x 1 mm Body, 0.5 mm Pitch, Exposed Pad; Supplier 1: Digi-Key; Supplier Part Number 1: BQ24085DRCTG4-ND; Eco-Plan: Green (RoHS & no Sb/Br); Li-Polymer: Y; NiCd: N; NiMH: N; Over Voltage Protection: N; Mounting Technology: Surface Mount; ComponentLink1Description: Datasheet; ComponentLink1URL: http://www.ti.com/general/docs/lit/getliterature.tsp?genericPartNumber=BQ24085&fileType=pdf
footprint DRC10-2400X1650TP (SON, 10-Leads, Body 3x3mm, Pitch 0.5mm, Thermal Pad 2.4x1.65mm, TI Recommended)
pins: 1 IN (power) "Charge Input Voltage and internal supply. Connect a 1- uF (minimum) capacitor from IN to VSS. CIN >= COUT", 2 TMR "Safety Timer Program Input, timer disabled if floating. Connect a resistor to VSS pin to program safety timer timeout value", 3 STAT1 (hiz) "Charge Status Output 1", 4 STAT2 (hiz) "Charge Status Output 2", 5 VSS (power) "Ground", 6 ISET (in) "Charge current set point, resistor connected from ISET to VSS sets charge current value. Connect a 0.1-uF capacitor from BAT to ISET for I(OUT) < 200 mA.", 7 ~{PG} (hiz) "Power Good status output (open-collector), active low", 8 ~{CE} (in) "Charge enable Input. C\E\ = LO enables charger. C\E\ = HI disables charger.", 9 BAT (in) "Battery Voltage Sense Input. Connect to the battery positive terminal. Connect a 390-ohm resistor from BAT to OUT for I(OUT) < 200 mA.", 10 OUT (power) "Charge current output. Connect to the battery positive terminal. Connect a 1- uF (minimum) capacitor from OUT to VSS.", 11 EP (power) "There is an internal electrical connection between the exposed thermal pad and Vss pin of the IC. The exposed thermal pad must be connected to the same potential as the VSS pin on the printed circuit board. Do not use the (See Datasheet)"

## BQ24086DRCR
designator U?
750 mA Single-Chip Li-Ion / Li-Pol Charge Management IC with Thermal Regulation, 4.3 V, 0 to 125 degC, 10-pin SON (DRC), Green (RoHS & no Sb/Br); PartNumber: BQ24086DRCR; Manufacturer: Texas Instruments; Lead Acid: N; Li-Ion: Y; SubFamily: Battery Charge Management; Vin(Min)(V): 4.3; DatasheetVersion: SLUS784D; PackageVersion: revL, Sep-2011; PackageReference: DRC10-2400X1650TP; PackageDescription: 10-Pin Plastic Small Outline No-Lead, 3 x 3 x 1 mm Body, 0.5 mm Pitch, Exposed Pad; Supplier 1: Digi-Key; Supplier Part Number 1: 296-22993-2-ND; Supplier Part Number 3: 296-22993-6-ND; Eco-Plan: Green (RoHS & no Sb/Br); Li-Polymer: Y; NiCd: N; NiMH: N; Over Voltage Protection: N; Mounting Technology: Surface Mount; ComponentLink1Description: Datasheet; ComponentLink1URL: http://www.ti.com/general/docs/lit/getliterature.tsp?genericPartNumber=BQ24086&fileType=pdf
footprint DRC10-2400X1650TP (SON, 10-Leads, Body 3x3mm, Pitch 0.5mm, Thermal Pad 2.4x1.65mm, TI Recommended)
pins: 1 IN (power) "Charge Input Voltage and internal supply. Connect a 1- uF (minimum) capacitor from IN to VSS. CIN >= COUT", 2 TMR "Safety Timer Program Input, timer disabled if floating. Connect a resistor to VSS pin to program safety timer timeout value", 3 STAT1 (hiz) "Charge Status Output 1", 4 STAT2 (hiz) "Charge Status Output 2", 5 VSS (power) "Ground", 6 ISET (in) "Charge current set point, resistor connected from ISET to VSS sets charge current value. Connect a 0.1-uF capacitor from BAT to ISET for I(OUT) < 200 mA.", 7 ~{PG} (hiz) "Power Good status output (open-collector), active low", 8 TS (in) "Temperature Sense Input, connect to battery pack thermistor. Connect an external resistive divider to program temperature thresholds.", 9 BAT (in) "Battery Voltage Sense Input. Connect to the battery positive terminal. Connect a 390-ohm resistor from BAT to OUT for I(OUT) < 200 mA.", 10 OUT (power) "Charge current output. Connect to the battery positive terminal. Connect a 1- uF (minimum) capacitor from OUT to VSS.", 11 EP (power) "There is an internal electrical connection between the exposed thermal pad and Vss pin of the IC. The exposed thermal pad must be connected to the same potential as the VSS pin on the printed circuit board. Do not use the (See Datasheet)"

## BQ24086DRCRG4
designator U?
750 mA Single-Chip Li-Ion / Li-Pol Charge Management IC with Thermal Regulation, 4.3 V, 0 to 125 degC, 10-pin SON (DRC), Green (RoHS & no Sb/Br); PartNumber: BQ24086DRCRG4; Manufacturer: Texas Instruments; Lead Acid: N; Li-Ion: Y; SubFamily: Battery Charge Management; Vin(Min)(V): 4.3; DatasheetVersion: SLUS784D; PackageVersion: revL, Sep-2011; PackageReference: DRC10-2400X1650TP; PackageDescription: 10-Pin Plastic Small Outline No-Lead, 3 x 3 x 1 mm Body, 0.5 mm Pitch, Exposed Pad; Supplier 1: Digi-Key; Supplier Part Number 1: BQ24086DRCRG4-ND; Eco-Plan: Green (RoHS & no Sb/Br); Li-Polymer: Y; NiCd: N; NiMH: N; Over Voltage Protection: N; Mounting Technology: Surface Mount; ComponentLink1Description: Datasheet; ComponentLink1URL: http://www.ti.com/general/docs/lit/getliterature.tsp?genericPartNumber=BQ24086&fileType=pdf
footprint DRC10-2400X1650TP (SON, 10-Leads, Body 3x3mm, Pitch 0.5mm, Thermal Pad 2.4x1.65mm, TI Recommended)
pins: 1 IN (power) "Charge Input Voltage and internal supply. Connect a 1- uF (minimum) capacitor from IN to VSS. CIN >= COUT", 2 TMR "Safety Timer Program Input, timer disabled if floating. Connect a resistor to VSS pin to program safety timer timeout value", 3 STAT1 (hiz) "Charge Status Output 1", 4 STAT2 (hiz) "Charge Status Output 2", 5 VSS (power) "Ground", 6 ISET (in) "Charge current set point, resistor connected from ISET to VSS sets charge current value. Connect a 0.1-uF capacitor from BAT to ISET for I(OUT) < 200 mA.", 7 ~{PG} (hiz) "Power Good status output (open-collector), active low", 8 TS (in) "Temperature Sense Input, connect to battery pack thermistor. Connect an external resistive divider to program temperature thresholds.", 9 BAT (in) "Battery Voltage Sense Input. Connect to the battery positive terminal. Connect a 390-ohm resistor from BAT to OUT for I(OUT) < 200 mA.", 10 OUT (power) "Charge current output. Connect to the battery positive terminal. Connect a 1- uF (minimum) capacitor from OUT to VSS.", 11 EP (power) "There is an internal electrical connection between the exposed thermal pad and Vss pin of the IC. The exposed thermal pad must be connected to the same potential as the VSS pin on the printed circuit board. Do not use the (See Datasheet)"

## BQ24086DRCT
designator U?
750 mA Single-Chip Li-Ion / Li-Pol Charge Management IC with Thermal Regulation, 4.3 V, 0 to 125 degC, 10-pin SON (DRC), Green (RoHS & no Sb/Br); PartNumber: BQ24086DRCT; Manufacturer: Texas Instruments; Lead Acid: N; Li-Ion: Y; SubFamily: Battery Charge Management; Vin(Min)(V): 4.3; DatasheetVersion: SLUS784D; PackageVersion: revL, Sep-2011; PackageReference: DRC10-2400X1650TP; PackageDescription: 10-Pin Plastic Small Outline No-Lead, 3 x 3 x 1 mm Body, 0.5 mm Pitch, Exposed Pad; Supplier 1: Digi-Key; Supplier Part Number 1: BQ24086DRCT-ND; Eco-Plan: Green (RoHS & no Sb/Br); Li-Polymer: Y; NiCd: N; NiMH: N; Over Voltage Protection: N; Mounting Technology: Surface Mount; ComponentLink1Description: Datasheet; ComponentLink1URL: http://www.ti.com/general/docs/lit/getliterature.tsp?genericPartNumber=BQ24086&fileType=pdf
footprint DRC10-2400X1650TP (SON, 10-Leads, Body 3x3mm, Pitch 0.5mm, Thermal Pad 2.4x1.65mm, TI Recommended)
pins: 1 IN (power) "Charge Input Voltage and internal supply. Connect a 1- uF (minimum) capacitor from IN to VSS. CIN >= COUT", 2 TMR "Safety Timer Program Input, timer disabled if floating. Connect a resistor to VSS pin to program safety timer timeout value", 3 STAT1 (hiz) "Charge Status Output 1", 4 STAT2 (hiz) "Charge Status Output 2", 5 VSS (power) "Ground", 6 ISET (in) "Charge current set point, resistor connected from ISET to VSS sets charge current value. Connect a 0.1-uF capacitor from BAT to ISET for I(OUT) < 200 mA.", 7 ~{PG} (hiz) "Power Good status output (open-collector), active low", 8 TS (in) "Temperature Sense Input, connect to battery pack thermistor. Connect an external resistive divider to program temperature thresholds.", 9 BAT (in) "Battery Voltage Sense Input. Connect to the battery positive terminal. Connect a 390-ohm resistor from BAT to OUT for I(OUT) < 200 mA.", 10 OUT (power) "Charge current output. Connect to the battery positive terminal. Connect a 1- uF (minimum) capacitor from OUT to VSS.", 11 EP (power) "There is an internal electrical connection between the exposed thermal pad and Vss pin of the IC. The exposed thermal pad must be connected to the same potential as the VSS pin on the printed circuit board. Do not use the (See Datasheet)"

## BQ24086DRCTG4
designator U?
750 mA Single-Chip Li-Ion / Li-Pol Charge Management IC with Thermal Regulation, 4.3 V, 0 to 125 degC, 10-pin SON (DRC), Green (RoHS & no Sb/Br); PartNumber: BQ24086DRCTG4; Manufacturer: Texas Instruments; Lead Acid: N; Li-Ion: Y; SubFamily: Battery Charge Management; Vin(Min)(V): 4.3; DatasheetVersion: SLUS784D; PackageVersion: revL, Sep-2011; PackageReference: DRC10-2400X1650TP; PackageDescription: 10-Pin Plastic Small Outline No-Lead, 3 x 3 x 1 mm Body, 0.5 mm Pitch, Exposed Pad; Supplier 1: Digi-Key; Supplier Part Number 1: BQ24086DRCTG4-ND; Eco-Plan: Green (RoHS & no Sb/Br); Li-Polymer: Y; NiCd: N; NiMH: N; Over Voltage Protection: N; Mounting Technology: Surface Mount; ComponentLink1Description: Datasheet; ComponentLink1URL: http://www.ti.com/general/docs/lit/getliterature.tsp?genericPartNumber=BQ24086&fileType=pdf
footprint DRC10-2400X1650TP (SON, 10-Leads, Body 3x3mm, Pitch 0.5mm, Thermal Pad 2.4x1.65mm, TI Recommended)
pins: 1 IN (power) "Charge Input Voltage and internal supply. Connect a 1- uF (minimum) capacitor from IN to VSS. CIN >= COUT", 2 TMR "Safety Timer Program Input, timer disabled if floating. Connect a resistor to VSS pin to program safety timer timeout value", 3 STAT1 (hiz) "Charge Status Output 1", 4 STAT2 (hiz) "Charge Status Output 2", 5 VSS (power) "Ground", 6 ISET (in) "Charge current set point, resistor connected from ISET to VSS sets charge current value. Connect a 0.1-uF capacitor from BAT to ISET for I(OUT) < 200 mA.", 7 ~{PG} (hiz) "Power Good status output (open-collector), active low", 8 TS (in) "Temperature Sense Input, connect to battery pack thermistor. Connect an external resistive divider to program temperature thresholds.", 9 BAT (in) "Battery Voltage Sense Input. Connect to the battery positive terminal. Connect a 390-ohm resistor from BAT to OUT for I(OUT) < 200 mA.", 10 OUT (power) "Charge current output. Connect to the battery positive terminal. Connect a 1- uF (minimum) capacitor from OUT to VSS.", 11 EP (power) "There is an internal electrical connection between the exposed thermal pad and Vss pin of the IC. The exposed thermal pad must be connected to the same potential as the VSS pin on the printed circuit board. Do not use the (See Datasheet)"

## BQ24087DRCR
designator U?
750 mA Single-Chip Li-Ion / Li-Pol Charge Management IC with Thermal Regulation, 4.3 V, 0 to 125 degC, 10-pin SON (DRC), Green (RoHS & no Sb/Br); PartNumber: BQ24087DRCR; Manufacturer: Texas Instruments; Lead Acid: N; Li-Ion: Y; SubFamily: Battery Charge Management; Vin(Min)(V): 4.3; DatasheetVersion: SLUS784D; PackageVersion: revL, Sep-2011; PackageReference: DRC10-2400X1650TP; PackageDescription: 10-Pin Plastic Small Outline No-Lead, 3 x 3 x 1 mm Body, 0.5 mm Pitch, Exposed Pad; Supplier 1: Digi-Key; Supplier Part Number 1: 296-22994-2-ND; Supplier Part Number 3: 296-22994-6-ND; Eco-Plan: Green (RoHS & no Sb/Br); Li-Polymer: Y; NiCd: N; NiMH: N; Over Voltage Protection: N; Mounting Technology: Surface Mount; ComponentLink1Description: Datasheet; ComponentLink1URL: http://www.ti.com/general/docs/lit/getliterature.tsp?genericPartNumber=BQ24087&fileType=pdf
footprint DRC10-2400X1650TP (SON, 10-Leads, Body 3x3mm, Pitch 0.5mm, Thermal Pad 2.4x1.65mm, TI Recommended)
pins: 1 IN (power) "Charge Input Voltage and internal supply. Connect a 1- uF (minimum) capacitor from IN to VSS. CIN >= COUT", 2 TMR "Safety Timer Program Input, timer disabled if floating. Connect a resistor to VSS pin to program safety timer timeout value", 3 STAT1 (hiz) "Charge Status Output 1", 4 STAT2 (hiz) "Charge Status Output 2", 5 VSS (power) "Ground", 6 ISET (in) "Charge current set point, resistor connected from ISET to VSS sets charge current value. Connect a 0.1-uF capacitor from BAT to ISET for I(OUT) < 200 mA.", 7 ~{CE} (in) "Charge enable Input. C\E\ = LO enables charger. C\E\ = HI disables charger.", 8 ~{TE} (in) "Termination enable Input. T\E\ = LO enables termination detection and battery absent detection. T\E\ = HI disables termination detection and battery absent detection.", 9 BAT (in) "Battery Voltage Sense Input. Connect to the battery positive terminal. Connect a 390-ohm resistor from BAT to OUT for I(OUT) < 200 mA.", 10 OUT (power) "Charge current output. Connect to the battery positive terminal. Connect a 1- uF (minimum) capacitor from OUT to VSS.", 11 EP (power) "There is an internal electrical connection between the exposed thermal pad and Vss pin of the IC. The exposed thermal pad must be connected to the same potential as the VSS pin on the printed circuit board. Do not use the (See Datasheet)"